# Altium schematic symbol library WRB_S-1WR2.SchLib: 1 symbol
Pins are listed as number, name and electrical type; pins without a type are passive.

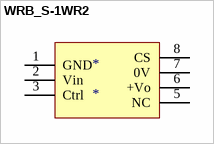
[diagram p0: symbol WRB_S-1WR2]

## WRB_S-1WR2
designator *
pins: 1 GND, 2 Vin, 3 Ctrl, 5 NC, 6 +Vo, 7 0V, 8 CS